# EAGLE library part ADS7830IPWR (library ADS7830IPWR)
Check prices <https://pricing.snapeda.com/parts/ADS7830IPWR/Texas%20Instruments/view-part?ref=eda>
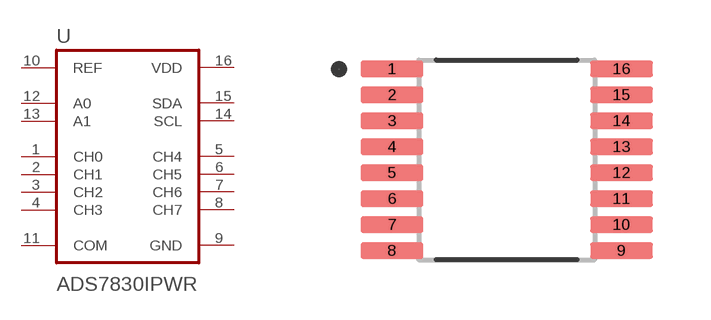
[diagram p0: symbol with the pads of SOP65P640X120-16N; footprint SOP65P640X120-16N]

Designator prefix -

## ADS7830IPWR.PW (AVAILABILITY: In Stock; DESCRIPTION: 8-Bit, 8-Channel Sampling A/D Converter with I2C Interface 16-TSSOP -40 to 85; MF: Texas Instruments; MP: ADS7830IPWR; PACKAGE: TSSOP-16 Texas Instruments; PRICE: None; PURCHASE-URL: https://pricing.snapeda.com/search/part/ADS7830IPWR/?ref=eda)  [SOP65P640X120-16N]
1  CH0
2  CH1
3  CH2
4  CH3
5  CH4
6  CH5
7  CH6
8  CH7
9  GND  pwr
10  REF  in
11  COM
12  A0
13  A1
14  SCL  in
15  SDA
16  VDD  pwr

## Footprint SOP65P640X120-16N (pad centres in mm)
smd 1.57 x 0.41: 1 -2.87,2.275; 2 -2.87,1.625; 3 -2.87,0.975; 4 -2.87,0.325; 5 -2.87,-0.325; 6 -2.87,-0.975; 7 -2.87,-1.625; 8 -2.87,-2.275; 9 2.87,-2.275; 10 2.87,-1.625; 11 2.87,-0.975; 12 2.87,-0.325; 13 2.87,0.325; 14 2.87,0.975; 15 2.87,1.625; 16 2.87,2.275